# Altium footprint library PcbLib1.PcbLib: 13 footprints
Each footprint in its own frame and in the unit in brackets; x right, y up, seen from the top. Pads: shape width x height; smd on the part's side, far side on the other; paste and mask are expansions set on the pad; w line width, h text height; cw(c..) or ccw(c..) is an arc to the next point about the centre after c.
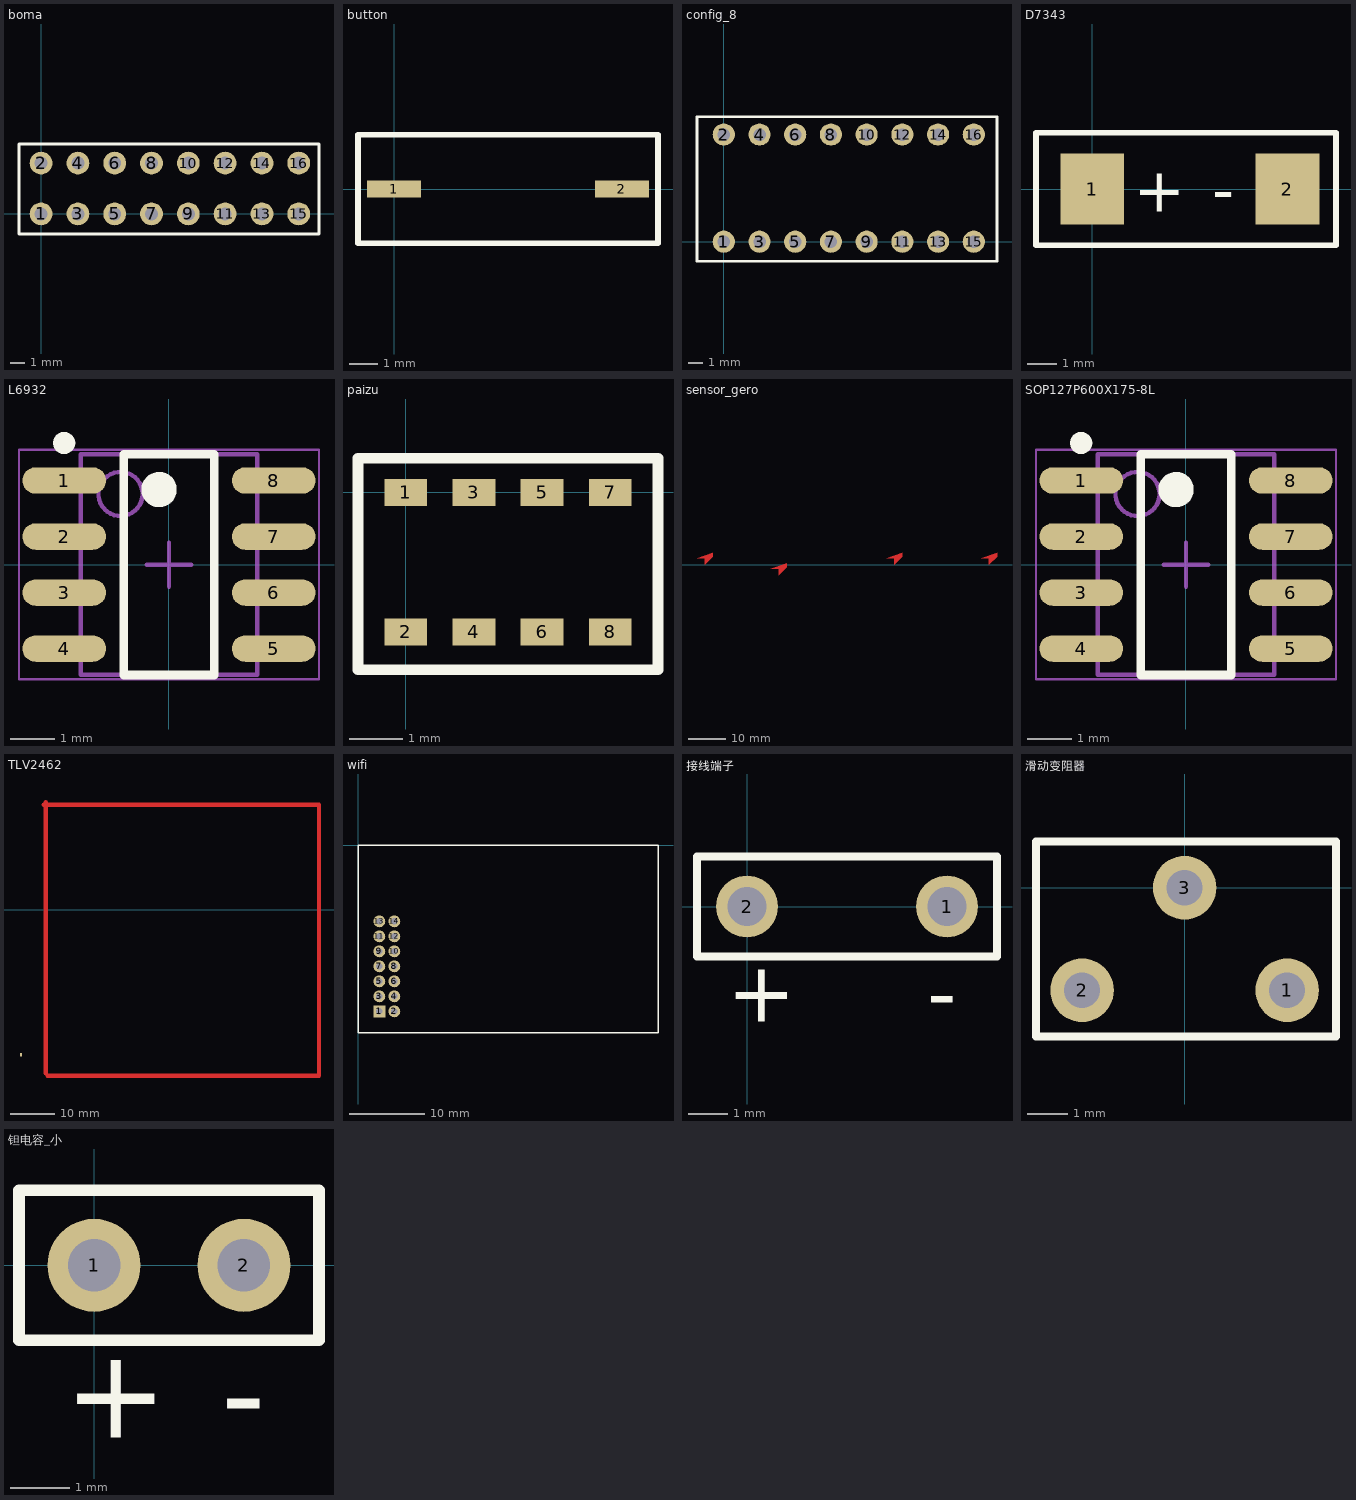
[diagram p0: the footprints below, top view; thin cyan lines are the x and y axes]

## boma [mm]
pads (16):
  round 1.575 hole 0.889: 1(0,0) 2(0,3.5) 3(2.54,0) 4(2.54,3.5) 5(5.08,0) 6(5.08,3.5) 7(7.62,0) 8(7.62,3.5) 9(10.16,0) 10(10.16,3.5) 11(12.7,0) 12(12.7,3.5) 13(15.24,0) 14(15.24,3.5) 15(17.78,0) 16(17.78,3.5)
Top Overlay:
  lines w0.2: -1.524,-1.397 19.177,-1.397 19.177,4.826 -1.524,4.826 -1.524,-1.397

## button [mm]
pads (2):
  rect 1.9x0.6 smd: 1(0,0) 2(8,0)
Top Overlay:
  lines w0.2: -1.27,-1.905 9.271,-1.905 ; -1.27,-1.85 -1.27,1.85 ; -1.27,1.905 9.271,1.905 ; 9.271,-1.85 9.271,1.85

## config_8 [mm]
pads (16):
  round 1.575 hole 0.889: 1(0,0) 2(0,7.62) 3(2.54,0) 4(2.54,7.62) 5(5.08,0) 6(5.08,7.62) 7(7.62,0) 8(7.62,7.62) 9(10.16,0) 10(10.16,7.62) 11(12.7,0) 12(12.7,7.62) 13(15.24,0) 14(15.24,7.62) 15(17.78,0) 16(17.78,7.62)
Top Overlay:
  lines w0.2: -1.905,-1.397 19.431,-1.397 19.431,8.89 -1.905,8.89 -1.905,-1.397

## D7343 [mm]
pads (2):
  rect 2.16x2.41 smd: 1(0,0) 2(6.61,0)
Top Overlay:
  lines w0.2: -1.905,-1.905 8.255,-1.905 8.255,1.905 -1.905,1.905 -1.905,-1.905
  text "+" at 1.397,-0.762 h1.52
  text "-" at 4.064,-0.762 h1.52

## L6932 [mm] "SOP, 8-Leads, Body 4.90x3.90mm, Pitch 1.27mm, IPC High Density"
height 1.75
pads (8):
  oval 1.9x0.6 smd: 1(-2.375,1.905) 2(-2.375,0.635) 3(-2.375,-0.635) 4(-2.375,-1.905) 5(2.375,-1.905) 6(2.375,-0.635) 7(2.375,0.635) 8(2.375,1.905)
Top Overlay:
  circle w0.4: c-0.225,1.7 r0.2
  circle w0.25: c-2.375,2.755 r0.125
  lines w0.2: -1.025,-2.5 1.025,-2.5 1.025,2.5 -1.025,2.5 -1.025,-2.5
Mechanical 13:
  circle w0.1: c-1.1,1.6 r0.5
  lines w0.1: -2,-2.5 2,-2.5 2,2.5 -2,2.5 -2,-2.5
Mechanical 15:
  lines w0.05: -3.4,-2.6 3.4,-2.6 3.4,2.6 -3.4,2.6 -3.4,-2.6
  lines w0.1: -0.5,0 0.5,0 ; 0,-0.5 0,0.5
3D body: height 1.75, standoff 0.1, extent -2,-2.5 2,2.5

## paizu [mm]
pads (8):
  rect 0.8x0.5 smd: 1(0,0) 2(0,-2.6) 3(1.27,0) 4(1.27,-2.6) 5(2.54,0) 6(2.54,-2.6) 7(3.81,0) 8(3.81,-2.6)
Top Overlay:
  lines w0.2: -0.889,-3.302 -0.889,0.635 4.699,0.635 4.699,-3.302 -0.889,-3.302

## sensor_gero [mm]
Top Layer:
  region: 97.155,1.778 99.187,1.778 99.187,0 101.346,2.159 101.346,3.302
  region: 71.755,1.778 73.787,1.778 73.787,0 75.946,2.159 75.946,3.302
  region: 40.767,-1.079 42.799,-1.079 42.799,-2.857 44.958,-0.699 44.958,0.445
  region: 20.955,1.778 22.987,1.778 22.987,0 25.146,2.159 25.146,3.302

## SOP127P600X175-8L [mm] "SOP, 8-Leads, Body 4.90x3.90mm, Pitch 1.27mm, IPC High Density"
height 1.75
pads (8):
  oval 1.9x0.6 smd: 1(-2.375,1.905) 2(-2.375,0.635) 3(-2.375,-0.635) 4(-2.375,-1.905) 5(2.375,-1.905) 6(2.375,-0.635) 7(2.375,0.635) 8(2.375,1.905)
Top Overlay:
  circle w0.4: c-0.225,1.7 r0.2
  circle w0.25: c-2.375,2.755 r0.125
  lines w0.2: -1.025,-2.5 1.025,-2.5 1.025,2.5 -1.025,2.5 -1.025,-2.5
Mechanical 13:
  circle w0.1: c-1.1,1.6 r0.5
  lines w0.1: -2,-2.5 2,-2.5 2,2.5 -2,2.5 -2,-2.5
Mechanical 15:
  lines w0.05: -3.4,-2.6 3.4,-2.6 3.4,2.6 -3.4,2.6 -3.4,-2.6
  lines w0.1: -0.5,0 0.5,0 ; 0,-0.5 0,0.5
3D body: height 1.75, standoff 0.25, extent -2,-2.5 2,2.5

## TLV2462 [mm]
pads (1):
  rect 0.41x0.835 smd: 1(-243.967,-32.512)
Top Layer:
  lines w1: -238.887,23.495 -177.165,23.495 -177.165,-37.211 -237.998,-37.211 ; -238.379,-36.703 -238.379,24.003

## wifi [mm]
pads (14):
  rect 1.575x1.575 hole 0.889: 1(2.85,-22.15)
  round 1.575 hole 0.889: 2(4.85,-22.15) 3(2.85,-20.15) 4(4.85,-20.15) 5(2.85,-18.15) 6(4.85,-18.15) 7(2.85,-16.15) 8(4.85,-16.15) 9(2.85,-14.15) 10(4.85,-14.15) 11(2.85,-12.15) 12(4.85,-12.15) 13(2.85,-10.15) 14(4.85,-10.15)
Top Overlay:
  lines w0.2: 0,-25 0,0 40,0 40,-25 0,-25

## 接线端子 [mm]
pads (2):
  round 1.575 hole 1: 1(5.08,0) 2(0,0)
Top Overlay:
  lines w0.2: -1.27,-1.27 6.35,-1.27 6.35,1.27 -1.27,1.27 -1.27,-1.27
  text "+" at -0.508,-2.921 h1.52
  text "-" at 4.572,-2.921 h1.52

## 滑动变阻器 [mm]
pads (3):
  round 1.575 hole 0.889: 1(2.54,-2.54) 2(-2.54,-2.54) 3(0,0)
Top Overlay:
  lines w0.2: -3.683,-3.683 3.75,-3.683 3.75,1.143 -3.683,1.143 -3.683,-3.683

## 钽电容_小 [mil]
pads (2):
  round 62 hole 35: 1(0,0) 2(100,0)
Top Overlay:
  lines w7.87: -50,-50 -50,50 150,50 150,-50 -50,-50
  text "+" at -20,-115 h60
  text "-" at 85,-115 h60